# Altium schematic symbol library etherceptor.SchLib: 86 symbols (part 2 of 2)
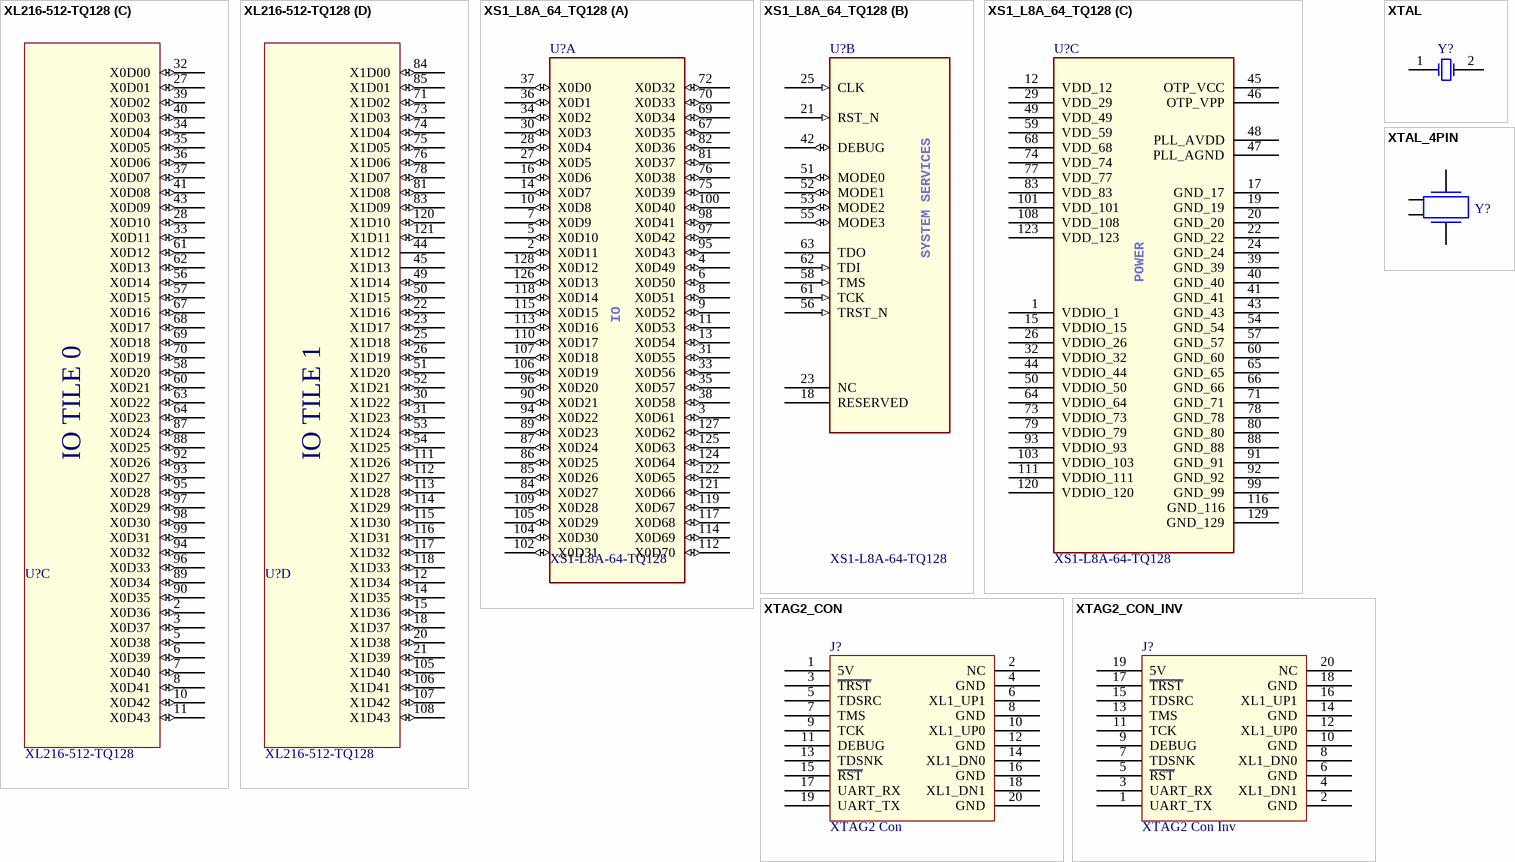
[diagram p6: symbols XL216-512-TQ128 to XTAL_4PIN]

## XTAG2_CON
designator J?, comment XTAG2 Con
XTAG2 Connector
footprint IDC2.54-V20D (Connector; IDC, Low Profile Male Header, Thru-Hole; 20 Position; Vertical; Pitch 2.54 mm; Body 33.02 x 9.2 x 9.45 mm (LxWxH))
footprint M40-3101045R (1mm SMD header female 2x10 positions)
footprint M40-3201045R (1mm SMD header male 2x10 positions)
pins: 1 5V, 2 NC, 3 ~{TRST}, 4 GND, 5 TDSRC, 6 XL1_UP1, 7 TMS, 8 GND, 9 TCK, 10 XL1_UP0, 11 DEBUG, 12 GND, 13 TDSNK, 14 XL1_DN0, 15 ~{RST}, 16 GND, 17 UART_RX, 18 XL1_DN1, 19 UART_TX, 20 GND

## XTAG2_CON_INV
designator J?, comment XTAG2 Con Inv
XTAG2 Connector Inverted for female con
footprint IDC2.54-V20D (Connector; IDC, Low Profile Male Header, Thru-Hole; 20 Position; Vertical; Pitch 2.54 mm; Body 33.02 x 9.2 x 9.45 mm (LxWxH))
footprint M40-3101045R (1mm SMD header female 2x10 positions)
footprint M40-3201045R (1mm SMD header male 2x10 positions)
pins: 1 UART_TX, 2 GND, 3 UART_RX, 4 XL1_DN1, 5 ~{RST}, 6 GND, 7 TDSNK, 8 XL1_DN0, 9 DEBUG, 10 GND, 11 TCK, 12 XL1_UP0, 13 TMS, 14 GND, 15 TDSRC, 16 XL1_UP1, 17 ~{TRST}, 18 GND, 19 5V, 20 NC

## XTAL
designator Y?
Crystal Oscillator; Published: 8-Jun-2000; LatestRevisionDate: 17-Jul-2002; LatestRevisionNote: Re-released for DXP Platform.; PackageReference: R38; Publisher: Altium Limited
footprint HC49/4H_SMX (Quartz Crystal, SM; Body 13.4 (inc. leads) x 4.9 mm (LxW max))
footprint 2012[0805]_XT (Chip Resistor / Capacitor; Body 2.0 x 1.3 mm (LxW typ) Handsoldering optimized)
pins: 1 OSC1, 2 OSC2

## XTAL_4PIN
designator Y?
Crystal SMD
footprint OSC_32_25 (Oscillator, 3,2mm x 2,5mm)
pins: 1 A, 2, 3 B, 4